# Altium footprint library PcbLib1.PcbLib: 13 footprints
Each footprint in its own frame and in the unit in brackets; x right, y up, seen from the top. Pads: shape width x height; smd on the part's side, far side on the other; paste and mask are expansions set on the pad; w line width, h text height; cw(c..) or ccw(c..) is an arc to the next point about the centre after c.
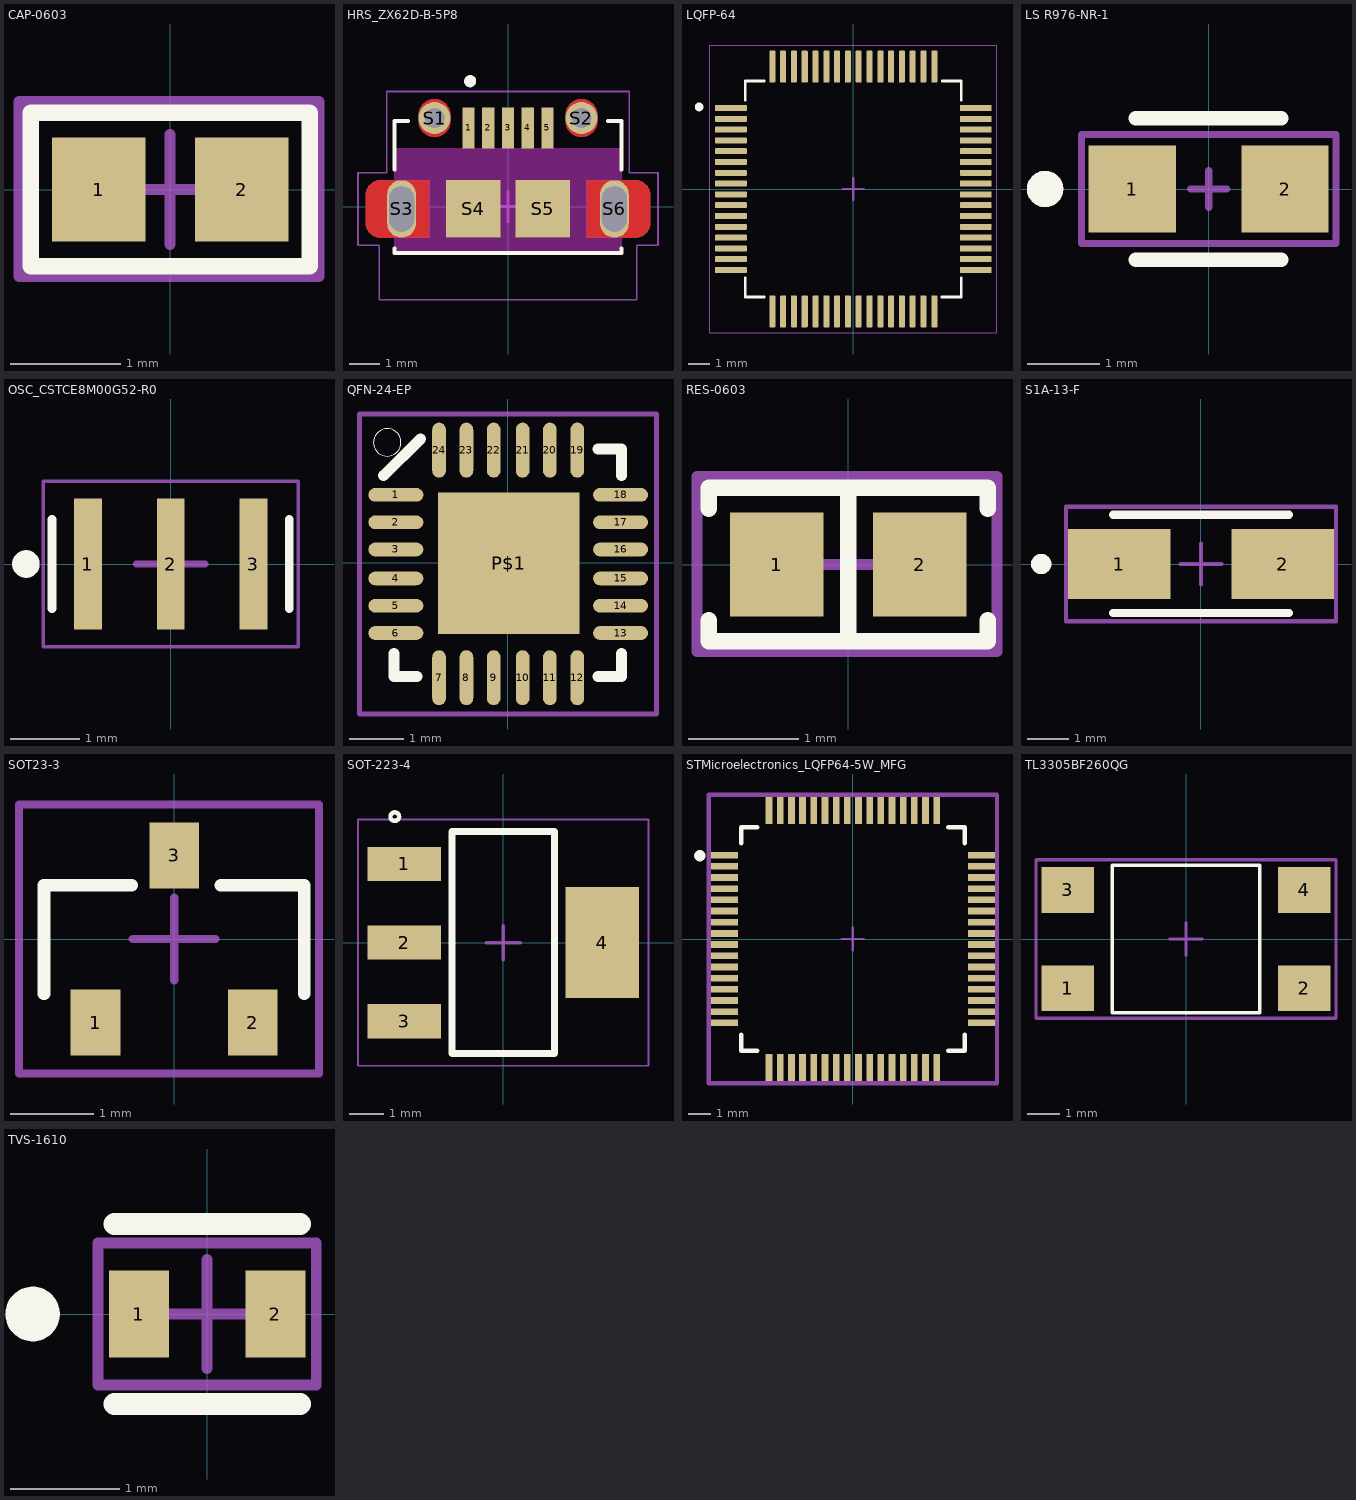
[diagram p0: the footprints below, top view; thin cyan lines are the x and y axes]

## CAP-0603 [mm]
pads (2):
  rect 0.85x0.95 smd: 1(-0.65,0) 2(0.65,0)
Top Overlay:
  lines w0.15: -1.27,-0.7 -1.27,-0.508 -1.27,0.7 1.27,0.7 1.27,-0.508 1.27,-0.7 -1.27,-0.7
Top Component Center:
  lines w0.1: -0.5,0 0.5,0 ; 0,-0.5 0,0.5 ; -1.375,-0.789 1.354,-0.789 1.354,0.799 -1.375,0.799 -1.375,0.233 -1.375,-0.15 -1.375,-0.709 -1.375,-0.789
Top Designator:
  lines w0.1: -1.375,-0.789 1.354,-0.789 1.354,0.799 -1.375,0.799 -1.375,0.233 -1.375,-0.15 -1.375,-0.709 -1.375,-0.789
  text ".Designator" at -0.5,-0.179 h1
3D body "CAP 0603.STEP": height 0.82, standoff 0, extent -0.775,-0.387 0.825,0.437

## HRS_ZX62D-B-5P8 [mm]
pads (11):
  rect 0.4x1.35 smd: 1(-1.3,2.6) 2(-0.65,2.6) 3(0,2.6) 4(0.65,2.6) 5(1.3,2.6)
  round 1.05 hole 0.65: S1(-2.425,2.925) S2(2.425,2.925)
  oval 0.95x1.9 hole 0.825 slot 1.5 at 90 deg: S3(-3.512,-0.075) S6(3.512,-0.075)
  rect 1.8x1.9 smd: S4(-1.15,-0.075) S5(1.15,-0.075)
Top Layer:
  region: 4.226,0.874 4.252,0.872 4.278,0.869 4.304,0.864 4.329,0.858 4.355,0.851 4.379,0.842 4.403,0.832 4.427,0.821 4.45,0.808 4.472,0.794 4.494,0.78 4.515,0.764 4.535,0.747 4.554,0.729 4.572,0.71 4.589,0.69 4.605,0.669 4.619,0.647 4.633,0.625 4.646,0.602 4.657,0.578 4.667,0.554 4.676,0.53 4.683,0.504 4.689,0.479 4.694,0.453 4.697,0.427 4.699,0.401 4.7,0.375 4.7,-0.075 3.925,-0.075 3.925,0.4 3.925,0.414 3.923,0.429 3.922,0.443 3.919,0.457 3.916,0.471 3.912,0.485 3.907,0.499 3.901,0.512 3.895,0.525 3.888,0.537 3.881,0.55 3.872,0.562 3.864,0.573 3.854,0.584 3.844,0.594 3.834,0.604 3.823,0.614 3.812,0.622 3.8,0.631 3.788,0.638 3.775,0.645 3.762,0.651 3.749,0.657 3.735,0.662 3.721,0.666 3.707,0.669 3.693,0.672 3.679,0.673 3.664,0.675 3.65,0.675 3.4,0.675 3.384,0.675 3.369,0.673 3.353,0.671 3.338,0.668 3.322,0.665 3.307,0.66 3.292,0.655 3.278,0.649 3.264,0.642 3.25,0.635 3.237,0.627 3.224,0.618 3.211,0.608 3.199,0.598 3.188,0.587 3.177,0.576 3.167,0.564 3.157,0.551 3.148,0.538 3.14,0.525 3.133,0.511 3.126,0.497 3.12,0.483 3.115,0.468 3.11,0.453 3.107,0.437 3.104,0.422 3.102,0.406 3.1,0.391 3.1,0.375 3.1,-0.075 2.6,-0.075 2.6,0.875 4.2,0.875
  region: -2.6,-1.025 -4.2,-1.025 -4.226,-1.024 -4.252,-1.022 -4.278,-1.019 -4.304,-1.014 -4.329,-1.008 -4.355,-1.001 -4.379,-0.992 -4.403,-0.982 -4.427,-0.971 -4.45,-0.958 -4.472,-0.944 -4.494,-0.93 -4.515,-0.914 -4.535,-0.897 -4.554,-0.879 -4.572,-0.86 -4.589,-0.84 -4.605,-0.819 -4.619,-0.797 -4.633,-0.775 -4.646,-0.752 -4.657,-0.728 -4.667,-0.704 -4.676,-0.68 -4.683,-0.654 -4.689,-0.629 -4.694,-0.603 -4.697,-0.577 -4.699,-0.551 -4.7,-0.525 -4.7,-0.075 -3.925,-0.075 -3.925,-0.55 -3.925,-0.564 -3.923,-0.579 -3.922,-0.593 -3.919,-0.607 -3.916,-0.621 -3.912,-0.635 -3.907,-0.649 -3.901,-0.662 -3.895,-0.675 -3.888,-0.687 -3.881,-0.7 -3.872,-0.712 -3.864,-0.723 -3.854,-0.734 -3.844,-0.744 -3.834,-0.754 -3.823,-0.764 -3.812,-0.772 -3.8,-0.781 -3.788,-0.788 -3.775,-0.795 -3.762,-0.801 -3.749,-0.807 -3.735,-0.812 -3.721,-0.816 -3.707,-0.819 -3.693,-0.822 -3.679,-0.823 -3.664,-0.825 -3.65,-0.825 -3.4,-0.825 -3.384,-0.825 -3.369,-0.823 -3.353,-0.821 -3.338,-0.818 -3.322,-0.815 -3.307,-0.81 -3.292,-0.805 -3.278,-0.799 -3.264,-0.792 -3.25,-0.785 -3.237,-0.777 -3.224,-0.768 -3.211,-0.758 -3.199,-0.748 -3.188,-0.737 -3.177,-0.726 -3.167,-0.714 -3.157,-0.701 -3.148,-0.688 -3.14,-0.675 -3.133,-0.661 -3.126,-0.647 -3.12,-0.633 -3.115,-0.618 -3.11,-0.603 -3.107,-0.587 -3.104,-0.572 -3.102,-0.556 -3.1,-0.541 -3.1,-0.525 -3.1,-0.075 -2.6,-0.075
  region: 4.7,-0.525 4.699,-0.551 4.697,-0.577 4.694,-0.603 4.689,-0.629 4.683,-0.654 4.676,-0.68 4.667,-0.704 4.657,-0.728 4.646,-0.752 4.633,-0.775 4.619,-0.797 4.605,-0.819 4.589,-0.84 4.572,-0.86 4.554,-0.879 4.535,-0.897 4.515,-0.914 4.494,-0.93 4.472,-0.944 4.45,-0.958 4.427,-0.971 4.403,-0.982 4.379,-0.992 4.355,-1.001 4.329,-1.008 4.304,-1.014 4.278,-1.019 4.252,-1.022 4.226,-1.024 4.2,-1.025 2.6,-1.025 2.6,-0.075 3.1,-0.075 3.1,-0.525 3.1,-0.541 3.102,-0.556 3.104,-0.572 3.107,-0.587 3.11,-0.603 3.115,-0.618 3.12,-0.633 3.126,-0.647 3.133,-0.661 3.14,-0.675 3.148,-0.688 3.157,-0.701 3.167,-0.714 3.177,-0.726 3.188,-0.737 3.199,-0.748 3.211,-0.758 3.224,-0.768 3.237,-0.777 3.25,-0.785 3.264,-0.792 3.278,-0.799 3.292,-0.805 3.307,-0.81 3.322,-0.815 3.338,-0.818 3.353,-0.821 3.369,-0.823 3.384,-0.825 3.4,-0.825 3.625,-0.825 3.641,-0.825 3.656,-0.823 3.672,-0.821 3.687,-0.818 3.703,-0.815 3.718,-0.81 3.733,-0.805 3.747,-0.799 3.761,-0.792 3.775,-0.785 3.788,-0.777 3.801,-0.768 3.814,-0.758 3.826,-0.748 3.837,-0.737 3.848,-0.726 3.858,-0.714 3.868,-0.701 3.877,-0.688 3.885,-0.675 3.892,-0.661 3.899,-0.647 3.905,-0.633 3.91,-0.618 3.915,-0.603 3.918,-0.587 3.921,-0.572 3.923,-0.556 3.925,-0.541 3.925,-0.525 3.925,-0.075 4.7,-0.075
  region: -2.6,-0.075 -3.1,-0.075 -3.1,0.375 -3.1,0.391 -3.102,0.406 -3.104,0.422 -3.107,0.437 -3.11,0.453 -3.115,0.468 -3.12,0.483 -3.126,0.497 -3.133,0.511 -3.14,0.525 -3.148,0.538 -3.157,0.551 -3.167,0.564 -3.177,0.576 -3.188,0.587 -3.199,0.598 -3.211,0.608 -3.224,0.618 -3.237,0.627 -3.25,0.635 -3.264,0.642 -3.278,0.649 -3.292,0.655 -3.307,0.66 -3.322,0.665 -3.338,0.668 -3.353,0.671 -3.369,0.673 -3.384,0.675 -3.4,0.675 -3.625,0.675 -3.641,0.675 -3.656,0.673 -3.672,0.671 -3.687,0.668 -3.703,0.665 -3.718,0.66 -3.733,0.655 -3.747,0.649 -3.761,0.642 -3.775,0.635 -3.788,0.627 -3.801,0.618 -3.814,0.608 -3.826,0.598 -3.837,0.587 -3.848,0.576 -3.858,0.564 -3.868,0.551 -3.877,0.538 -3.885,0.525 -3.892,0.511 -3.899,0.497 -3.905,0.483 -3.91,0.468 -3.915,0.453 -3.918,0.437 -3.921,0.422 -3.923,0.406 -3.925,0.391 -3.925,0.375 -3.925,-0.075 -4.7,-0.075 -4.7,0.375 -4.699,0.401 -4.697,0.427 -4.694,0.453 -4.689,0.479 -4.683,0.504 -4.676,0.53 -4.667,0.554 -4.657,0.578 -4.646,0.602 -4.633,0.625 -4.619,0.647 -4.605,0.669 -4.589,0.69 -4.572,0.71 -4.554,0.729 -4.535,0.747 -4.515,0.764 -4.494,0.78 -4.472,0.794 -4.45,0.808 -4.427,0.821 -4.403,0.832 -4.379,0.842 -4.355,0.851 -4.329,0.858 -4.304,0.864 -4.278,0.869 -4.252,0.872 -4.226,0.874 -4.2,0.875 -2.6,0.875
  region: 2.425,3.35 2.408,3.35 2.391,3.348 2.374,3.346 2.357,3.343 2.341,3.339 2.325,3.334 2.309,3.328 2.293,3.322 2.277,3.315 2.262,3.306 2.248,3.298 2.234,3.288 2.22,3.278 2.208,3.267 2.195,3.255 2.183,3.242 2.172,3.23 2.162,3.216 2.152,3.202 2.144,3.187 2.135,3.173 2.128,3.157 2.122,3.141 2.116,3.125 2.111,3.109 2.107,3.093 2.104,3.076 2.102,3.059 2.1,3.042 2.1,3.025 2.1,2.825 2.1,2.808 2.102,2.791 2.104,2.774 2.107,2.757 2.111,2.741 2.116,2.725 2.122,2.709 2.128,2.693 2.135,2.677 2.144,2.662 2.152,2.648 2.162,2.634 2.172,2.62 2.183,2.608 2.195,2.595 2.208,2.583 2.22,2.572 2.234,2.562 2.248,2.552 2.262,2.544 2.277,2.535 2.293,2.528 2.309,2.522 2.325,2.516 2.341,2.511 2.357,2.507 2.374,2.504 2.391,2.502 2.408,2.5 2.425,2.5 2.425,2.3 2.398,2.301 2.37,2.303 2.343,2.306 2.316,2.311 2.289,2.318 2.263,2.326 2.237,2.335 2.211,2.345 2.187,2.357 2.163,2.37 2.139,2.385 2.116,2.4 2.095,2.417 2.074,2.435 2.054,2.454 2.035,2.474 2.017,2.495 2,2.516 1.985,2.539 1.97,2.562 1.957,2.587 1.945,2.611 1.935,2.637 1.926,2.663 1.918,2.689 1.911,2.716 1.906,2.743 1.903,2.77 1.901,2.798 1.9,2.825 1.9,3.025 1.901,3.052 1.903,3.08 1.906,3.107 1.911,3.134 1.918,3.161 1.926,3.187 1.935,3.213 1.945,3.239 1.957,3.263 1.97,3.287 1.985,3.311 2,3.334 2.017,3.355 2.035,3.376 2.054,3.396 2.074,3.415 2.095,3.433 2.116,3.45 2.139,3.465 2.163,3.48 2.187,3.493 2.211,3.505 2.237,3.515 2.263,3.524 2.289,3.532 2.316,3.539 2.343,3.544 2.37,3.547 2.398,3.549 2.425,3.55
  region: 2.452,3.549 2.48,3.547 2.507,3.544 2.534,3.539 2.561,3.532 2.587,3.524 2.613,3.515 2.639,3.505 2.663,3.493 2.688,3.48 2.711,3.465 2.734,3.45 2.755,3.433 2.776,3.415 2.796,3.396 2.815,3.376 2.833,3.355 2.85,3.334 2.865,3.311 2.88,3.287 2.893,3.263 2.905,3.239 2.915,3.213 2.924,3.187 2.932,3.161 2.939,3.134 2.944,3.107 2.947,3.08 2.949,3.052 2.95,3.025 2.95,2.825 2.949,2.798 2.947,2.77 2.944,2.743 2.939,2.716 2.932,2.689 2.924,2.663 2.915,2.637 2.905,2.611 2.893,2.587 2.88,2.562 2.865,2.539 2.85,2.516 2.833,2.495 2.815,2.474 2.796,2.454 2.776,2.435 2.755,2.417 2.734,2.4 2.711,2.385 2.688,2.37 2.663,2.357 2.639,2.345 2.613,2.335 2.587,2.326 2.561,2.318 2.534,2.311 2.507,2.306 2.48,2.303 2.452,2.301 2.425,2.3 2.425,2.5 2.442,2.5 2.459,2.502 2.476,2.504 2.493,2.507 2.509,2.511 2.525,2.516 2.541,2.522 2.557,2.528 2.573,2.535 2.588,2.544 2.602,2.552 2.616,2.562 2.63,2.572 2.642,2.583 2.655,2.595 2.667,2.608 2.678,2.62 2.688,2.634 2.698,2.648 2.706,2.662 2.715,2.677 2.722,2.693 2.728,2.709 2.734,2.725 2.739,2.741 2.743,2.757 2.746,2.774 2.748,2.791 2.75,2.808 2.75,2.825 2.75,3.025 2.75,3.042 2.748,3.059 2.746,3.076 2.743,3.093 2.739,3.109 2.734,3.125 2.728,3.141 2.722,3.157 2.715,3.173 2.706,3.187 2.698,3.202 2.688,3.216 2.678,3.23 2.667,3.242 2.655,3.255 2.642,3.267 2.63,3.278 2.616,3.288 2.602,3.298 2.588,3.306 2.573,3.315 2.557,3.322 2.541,3.328 2.525,3.334 2.509,3.339 2.493,3.343 2.476,3.346 2.459,3.348 2.442,3.35 2.425,3.35 2.425,3.55
  region: -2.425,3.35 -2.442,3.35 -2.459,3.348 -2.476,3.346 -2.493,3.343 -2.509,3.339 -2.525,3.334 -2.541,3.328 -2.557,3.322 -2.573,3.315 -2.588,3.306 -2.602,3.298 -2.616,3.288 -2.63,3.278 -2.642,3.267 -2.655,3.255 -2.667,3.242 -2.678,3.23 -2.688,3.216 -2.698,3.202 -2.706,3.187 -2.715,3.173 -2.722,3.157 -2.728,3.141 -2.734,3.125 -2.739,3.109 -2.743,3.093 -2.746,3.076 -2.748,3.059 -2.75,3.042 -2.75,3.025 -2.75,2.825 -2.75,2.808 -2.748,2.791 -2.746,2.774 -2.743,2.757 -2.739,2.741 -2.734,2.725 -2.728,2.709 -2.722,2.693 -2.715,2.677 -2.706,2.662 -2.698,2.648 -2.688,2.634 -2.678,2.62 -2.667,2.608 -2.655,2.595 -2.642,2.583 -2.63,2.572 -2.616,2.562 -2.602,2.552 -2.588,2.544 -2.573,2.535 -2.557,2.528 -2.541,2.522 -2.525,2.516 -2.509,2.511 -2.493,2.507 -2.476,2.504 -2.459,2.502 -2.442,2.5 -2.425,2.5 -2.425,2.3 -2.452,2.301 -2.48,2.303 -2.507,2.306 -2.534,2.311 -2.561,2.318 -2.587,2.326 -2.613,2.335 -2.639,2.345 -2.663,2.357 -2.688,2.37 -2.711,2.385 -2.734,2.4 -2.755,2.417 -2.776,2.435 -2.796,2.454 -2.815,2.474 -2.833,2.495 -2.85,2.516 -2.865,2.539 -2.88,2.562 -2.893,2.587 -2.905,2.611 -2.915,2.637 -2.924,2.663 -2.932,2.689 -2.939,2.716 -2.944,2.743 -2.947,2.77 -2.949,2.798 -2.95,2.825 -2.95,3.025 -2.949,3.052 -2.947,3.08 -2.944,3.107 -2.939,3.134 -2.932,3.161 -2.924,3.187 -2.915,3.213 -2.905,3.239 -2.893,3.263 -2.88,3.287 -2.865,3.311 -2.85,3.334 -2.833,3.355 -2.815,3.376 -2.796,3.396 -2.776,3.415 -2.755,3.433 -2.734,3.45 -2.711,3.465 -2.688,3.48 -2.663,3.493 -2.639,3.505 -2.613,3.515 -2.587,3.524 -2.561,3.532 -2.534,3.539 -2.507,3.544 -2.48,3.547 -2.452,3.549 -2.425,3.55
  region: -2.398,3.549 -2.37,3.547 -2.343,3.544 -2.316,3.539 -2.289,3.532 -2.263,3.524 -2.237,3.515 -2.211,3.505 -2.187,3.493 -2.163,3.48 -2.139,3.465 -2.116,3.45 -2.095,3.433 -2.074,3.415 -2.054,3.396 -2.035,3.376 -2.017,3.355 -2,3.334 -1.985,3.311 -1.97,3.287 -1.957,3.263 -1.945,3.239 -1.935,3.213 -1.926,3.187 -1.918,3.161 -1.911,3.134 -1.906,3.107 -1.903,3.08 -1.901,3.052 -1.9,3.025 -1.9,2.825 -1.901,2.798 -1.903,2.77 -1.906,2.743 -1.911,2.716 -1.918,2.689 -1.926,2.663 -1.935,2.637 -1.945,2.611 -1.957,2.587 -1.97,2.562 -1.985,2.539 -2,2.516 -2.017,2.495 -2.035,2.474 -2.054,2.454 -2.074,2.435 -2.095,2.417 -2.116,2.4 -2.139,2.385 -2.163,2.37 -2.187,2.357 -2.211,2.345 -2.237,2.335 -2.263,2.326 -2.289,2.318 -2.316,2.311 -2.343,2.306 -2.37,2.303 -2.398,2.301 -2.425,2.3 -2.425,2.5 -2.408,2.5 -2.391,2.502 -2.374,2.504 -2.357,2.507 -2.341,2.511 -2.325,2.516 -2.309,2.522 -2.293,2.528 -2.277,2.535 -2.262,2.544 -2.248,2.552 -2.234,2.562 -2.22,2.572 -2.208,2.583 -2.195,2.595 -2.183,2.608 -2.172,2.62 -2.162,2.634 -2.152,2.648 -2.144,2.662 -2.135,2.677 -2.128,2.693 -2.122,2.709 -2.116,2.725 -2.111,2.741 -2.107,2.757 -2.104,2.774 -2.102,2.791 -2.1,2.808 -2.1,2.825 -2.1,3.025 -2.1,3.042 -2.102,3.059 -2.104,3.076 -2.107,3.093 -2.111,3.109 -2.116,3.125 -2.122,3.141 -2.128,3.157 -2.135,3.173 -2.144,3.187 -2.152,3.202 -2.162,3.216 -2.172,3.23 -2.183,3.242 -2.195,3.255 -2.208,3.267 -2.22,3.278 -2.234,3.288 -2.248,3.298 -2.262,3.306 -2.277,3.315 -2.293,3.322 -2.309,3.328 -2.325,3.334 -2.341,3.339 -2.357,3.343 -2.374,3.346 -2.391,3.348 -2.408,3.35 -2.425,3.35 -2.425,3.55
Bottom Layer:
  region: 4.226,0.874 4.252,0.872 4.278,0.869 4.304,0.864 4.329,0.858 4.355,0.851 4.379,0.842 4.403,0.832 4.427,0.821 4.45,0.808 4.472,0.794 4.494,0.78 4.515,0.764 4.535,0.747 4.554,0.729 4.572,0.71 4.589,0.69 4.605,0.669 4.619,0.647 4.633,0.625 4.646,0.602 4.657,0.578 4.667,0.554 4.676,0.53 4.683,0.504 4.689,0.479 4.694,0.453 4.697,0.427 4.699,0.401 4.7,0.375 4.7,-0.075 3.925,-0.075 3.925,0.4 3.925,0.414 3.923,0.429 3.922,0.443 3.919,0.457 3.916,0.471 3.912,0.485 3.907,0.499 3.901,0.512 3.895,0.525 3.888,0.537 3.881,0.55 3.872,0.562 3.864,0.573 3.854,0.584 3.844,0.594 3.834,0.604 3.823,0.614 3.812,0.622 3.8,0.631 3.788,0.638 3.775,0.645 3.762,0.651 3.749,0.657 3.735,0.662 3.721,0.666 3.707,0.669 3.693,0.672 3.679,0.673 3.664,0.675 3.65,0.675 3.4,0.675 3.384,0.675 3.369,0.673 3.353,0.671 3.338,0.668 3.322,0.665 3.307,0.66 3.292,0.655 3.278,0.649 3.264,0.642 3.25,0.635 3.237,0.627 3.224,0.618 3.211,0.608 3.199,0.598 3.188,0.587 3.177,0.576 3.167,0.564 3.157,0.551 3.148,0.538 3.14,0.525 3.133,0.511 3.126,0.497 3.12,0.483 3.115,0.468 3.11,0.453 3.107,0.437 3.104,0.422 3.102,0.406 3.1,0.391 3.1,0.375 3.1,-0.075 2.6,-0.075 2.6,0.875 4.2,0.875
  region: -2.6,-1.025 -4.2,-1.025 -4.226,-1.024 -4.252,-1.022 -4.278,-1.019 -4.304,-1.014 -4.329,-1.008 -4.355,-1.001 -4.379,-0.992 -4.403,-0.982 -4.427,-0.971 -4.45,-0.958 -4.472,-0.944 -4.494,-0.93 -4.515,-0.914 -4.535,-0.897 -4.554,-0.879 -4.572,-0.86 -4.589,-0.84 -4.605,-0.819 -4.619,-0.797 -4.633,-0.775 -4.646,-0.752 -4.657,-0.728 -4.667,-0.704 -4.676,-0.68 -4.683,-0.654 -4.689,-0.629 -4.694,-0.603 -4.697,-0.577 -4.699,-0.551 -4.7,-0.525 -4.7,-0.075 -3.925,-0.075 -3.925,-0.55 -3.925,-0.564 -3.923,-0.579 -3.922,-0.593 -3.919,-0.607 -3.916,-0.621 -3.912,-0.635 -3.907,-0.649 -3.901,-0.662 -3.895,-0.675 -3.888,-0.687 -3.881,-0.7 -3.872,-0.712 -3.864,-0.723 -3.854,-0.734 -3.844,-0.744 -3.834,-0.754 -3.823,-0.764 -3.812,-0.772 -3.8,-0.781 -3.788,-0.788 -3.775,-0.795 -3.762,-0.801 -3.749,-0.807 -3.735,-0.812 -3.721,-0.816 -3.707,-0.819 -3.693,-0.822 -3.679,-0.823 -3.664,-0.825 -3.65,-0.825 -3.4,-0.825 -3.384,-0.825 -3.369,-0.823 -3.353,-0.821 -3.338,-0.818 -3.322,-0.815 -3.307,-0.81 -3.292,-0.805 -3.278,-0.799 -3.264,-0.792 -3.25,-0.785 -3.237,-0.777 -3.224,-0.768 -3.211,-0.758 -3.199,-0.748 -3.188,-0.737 -3.177,-0.726 -3.167,-0.714 -3.157,-0.701 -3.148,-0.688 -3.14,-0.675 -3.133,-0.661 -3.126,-0.647 -3.12,-0.633 -3.115,-0.618 -3.11,-0.603 -3.107,-0.587 -3.104,-0.572 -3.102,-0.556 -3.1,-0.541 -3.1,-0.525 -3.1,-0.075 -2.6,-0.075
  region: 4.7,-0.525 4.699,-0.551 4.697,-0.577 4.694,-0.603 4.689,-0.629 4.683,-0.654 4.676,-0.68 4.667,-0.704 4.657,-0.728 4.646,-0.752 4.633,-0.775 4.619,-0.797 4.605,-0.819 4.589,-0.84 4.572,-0.86 4.554,-0.879 4.535,-0.897 4.515,-0.914 4.494,-0.93 4.472,-0.944 4.45,-0.958 4.427,-0.971 4.403,-0.982 4.379,-0.992 4.355,-1.001 4.329,-1.008 4.304,-1.014 4.278,-1.019 4.252,-1.022 4.226,-1.024 4.2,-1.025 2.6,-1.025 2.6,-0.075 3.1,-0.075 3.1,-0.525 3.1,-0.541 3.102,-0.556 3.104,-0.572 3.107,-0.587 3.11,-0.603 3.115,-0.618 3.12,-0.633 3.126,-0.647 3.133,-0.661 3.14,-0.675 3.148,-0.688 3.157,-0.701 3.167,-0.714 3.177,-0.726 3.188,-0.737 3.199,-0.748 3.211,-0.758 3.224,-0.768 3.237,-0.777 3.25,-0.785 3.264,-0.792 3.278,-0.799 3.292,-0.805 3.307,-0.81 3.322,-0.815 3.338,-0.818 3.353,-0.821 3.369,-0.823 3.384,-0.825 3.4,-0.825 3.625,-0.825 3.641,-0.825 3.656,-0.823 3.672,-0.821 3.687,-0.818 3.703,-0.815 3.718,-0.81 3.733,-0.805 3.747,-0.799 3.761,-0.792 3.775,-0.785 3.788,-0.777 3.801,-0.768 3.814,-0.758 3.826,-0.748 3.837,-0.737 3.848,-0.726 3.858,-0.714 3.868,-0.701 3.877,-0.688 3.885,-0.675 3.892,-0.661 3.899,-0.647 3.905,-0.633 3.91,-0.618 3.915,-0.603 3.918,-0.587 3.921,-0.572 3.923,-0.556 3.925,-0.541 3.925,-0.525 3.925,-0.075 4.7,-0.075
  region: -2.6,-0.075 -3.1,-0.075 -3.1,0.375 -3.1,0.391 -3.102,0.406 -3.104,0.422 -3.107,0.437 -3.11,0.453 -3.115,0.468 -3.12,0.483 -3.126,0.497 -3.133,0.511 -3.14,0.525 -3.148,0.538 -3.157,0.551 -3.167,0.564 -3.177,0.576 -3.188,0.587 -3.199,0.598 -3.211,0.608 -3.224,0.618 -3.237,0.627 -3.25,0.635 -3.264,0.642 -3.278,0.649 -3.292,0.655 -3.307,0.66 -3.322,0.665 -3.338,0.668 -3.353,0.671 -3.369,0.673 -3.384,0.675 -3.4,0.675 -3.625,0.675 -3.641,0.675 -3.656,0.673 -3.672,0.671 -3.687,0.668 -3.703,0.665 -3.718,0.66 -3.733,0.655 -3.747,0.649 -3.761,0.642 -3.775,0.635 -3.788,0.627 -3.801,0.618 -3.814,0.608 -3.826,0.598 -3.837,0.587 -3.848,0.576 -3.858,0.564 -3.868,0.551 -3.877,0.538 -3.885,0.525 -3.892,0.511 -3.899,0.497 -3.905,0.483 -3.91,0.468 -3.915,0.453 -3.918,0.437 -3.921,0.422 -3.923,0.406 -3.925,0.391 -3.925,0.375 -3.925,-0.075 -4.7,-0.075 -4.7,0.375 -4.699,0.401 -4.697,0.427 -4.694,0.453 -4.689,0.479 -4.683,0.504 -4.676,0.53 -4.667,0.554 -4.657,0.578 -4.646,0.602 -4.633,0.625 -4.619,0.647 -4.605,0.669 -4.589,0.69 -4.572,0.71 -4.554,0.729 -4.535,0.747 -4.515,0.764 -4.494,0.78 -4.472,0.794 -4.45,0.808 -4.427,0.821 -4.403,0.832 -4.379,0.842 -4.355,0.851 -4.329,0.858 -4.304,0.864 -4.278,0.869 -4.252,0.872 -4.226,0.874 -4.2,0.875 -2.6,0.875
  region: 2.425,3.35 2.408,3.35 2.391,3.348 2.374,3.346 2.357,3.343 2.341,3.339 2.325,3.334 2.309,3.328 2.293,3.322 2.277,3.315 2.262,3.306 2.248,3.298 2.234,3.288 2.22,3.278 2.208,3.267 2.195,3.255 2.183,3.242 2.172,3.23 2.162,3.216 2.152,3.202 2.144,3.187 2.135,3.173 2.128,3.157 2.122,3.141 2.116,3.125 2.111,3.109 2.107,3.093 2.104,3.076 2.102,3.059 2.1,3.042 2.1,3.025 2.1,2.825 2.1,2.808 2.102,2.791 2.104,2.774 2.107,2.757 2.111,2.741 2.116,2.725 2.122,2.709 2.128,2.693 2.135,2.677 2.144,2.662 2.152,2.648 2.162,2.634 2.172,2.62 2.183,2.608 2.195,2.595 2.208,2.583 2.22,2.572 2.234,2.562 2.248,2.552 2.262,2.544 2.277,2.535 2.293,2.528 2.309,2.522 2.325,2.516 2.341,2.511 2.357,2.507 2.374,2.504 2.391,2.502 2.408,2.5 2.425,2.5 2.425,2.3 2.398,2.301 2.37,2.303 2.343,2.306 2.316,2.311 2.289,2.318 2.263,2.326 2.237,2.335 2.211,2.345 2.187,2.357 2.163,2.37 2.139,2.385 2.116,2.4 2.095,2.417 2.074,2.435 2.054,2.454 2.035,2.474 2.017,2.495 2,2.516 1.985,2.539 1.97,2.562 1.957,2.587 1.945,2.611 1.935,2.637 1.926,2.663 1.918,2.689 1.911,2.716 1.906,2.743 1.903,2.77 1.901,2.798 1.9,2.825 1.9,3.025 1.901,3.052 1.903,3.08 1.906,3.107 1.911,3.134 1.918,3.161 1.926,3.187 1.935,3.213 1.945,3.239 1.957,3.263 1.97,3.287 1.985,3.311 2,3.334 2.017,3.355 2.035,3.376 2.054,3.396 2.074,3.415 2.095,3.433 2.116,3.45 2.139,3.465 2.163,3.48 2.187,3.493 2.211,3.505 2.237,3.515 2.263,3.524 2.289,3.532 2.316,3.539 2.343,3.544 2.37,3.547 2.398,3.549 2.425,3.55
  region: 2.452,3.549 2.48,3.547 2.507,3.544 2.534,3.539 2.561,3.532 2.587,3.524 2.613,3.515 2.639,3.505 2.663,3.493 2.688,3.48 2.711,3.465 2.734,3.45 2.755,3.433 2.776,3.415 2.796,3.396 2.815,3.376 2.833,3.355 2.85,3.334 2.865,3.311 2.88,3.287 2.893,3.263 2.905,3.239 2.915,3.213 2.924,3.187 2.932,3.161 2.939,3.134 2.944,3.107 2.947,3.08 2.949,3.052 2.95,3.025 2.95,2.825 2.949,2.798 2.947,2.77 2.944,2.743 2.939,2.716 2.932,2.689 2.924,2.663 2.915,2.637 2.905,2.611 2.893,2.587 2.88,2.562 2.865,2.539 2.85,2.516 2.833,2.495 2.815,2.474 2.796,2.454 2.776,2.435 2.755,2.417 2.734,2.4 2.711,2.385 2.688,2.37 2.663,2.357 2.639,2.345 2.613,2.335 2.587,2.326 2.561,2.318 2.534,2.311 2.507,2.306 2.48,2.303 2.452,2.301 2.425,2.3 2.425,2.5 2.442,2.5 2.459,2.502 2.476,2.504 2.493,2.507 2.509,2.511 2.525,2.516 2.541,2.522 2.557,2.528 2.573,2.535 2.588,2.544 2.602,2.552 2.616,2.562 2.63,2.572 2.642,2.583 2.655,2.595 2.667,2.608 2.678,2.62 2.688,2.634 2.698,2.648 2.706,2.662 2.715,2.677 2.722,2.693 2.728,2.709 2.734,2.725 2.739,2.741 2.743,2.757 2.746,2.774 2.748,2.791 2.75,2.808 2.75,2.825 2.75,3.025 2.75,3.042 2.748,3.059 2.746,3.076 2.743,3.093 2.739,3.109 2.734,3.125 2.728,3.141 2.722,3.157 2.715,3.173 2.706,3.187 2.698,3.202 2.688,3.216 2.678,3.23 2.667,3.242 2.655,3.255 2.642,3.267 2.63,3.278 2.616,3.288 2.602,3.298 2.588,3.306 2.573,3.315 2.557,3.322 2.541,3.328 2.525,3.334 2.509,3.339 2.493,3.343 2.476,3.346 2.459,3.348 2.442,3.35 2.425,3.35 2.425,3.55
  region: -2.425,3.35 -2.442,3.35 -2.459,3.348 -2.476,3.346 -2.493,3.343 -2.509,3.339 -2.525,3.334 -2.541,3.328 -2.557,3.322 -2.573,3.315 -2.588,3.306 -2.602,3.298 -2.616,3.288 -2.63,3.278 -2.642,3.267 -2.655,3.255 -2.667,3.242 -2.678,3.23 -2.688,3.216 -2.698,3.202 -2.706,3.187 -2.715,3.173 -2.722,3.157 -2.728,3.141 -2.734,3.125 -2.739,3.109 -2.743,3.093 -2.746,3.076 -2.748,3.059 -2.75,3.042 -2.75,3.025 -2.75,2.825 -2.75,2.808 -2.748,2.791 -2.746,2.774 -2.743,2.757 -2.739,2.741 -2.734,2.725 -2.728,2.709 -2.722,2.693 -2.715,2.677 -2.706,2.662 -2.698,2.648 -2.688,2.634 -2.678,2.62 -2.667,2.608 -2.655,2.595 -2.642,2.583 -2.63,2.572 -2.616,2.562 -2.602,2.552 -2.588,2.544 -2.573,2.535 -2.557,2.528 -2.541,2.522 -2.525,2.516 -2.509,2.511 -2.493,2.507 -2.476,2.504 -2.459,2.502 -2.442,2.5 -2.425,2.5 -2.425,2.3 -2.452,2.301 -2.48,2.303 -2.507,2.306 -2.534,2.311 -2.561,2.318 -2.587,2.326 -2.613,2.335 -2.639,2.345 -2.663,2.357 -2.688,2.37 -2.711,2.385 -2.734,2.4 -2.755,2.417 -2.776,2.435 -2.796,2.454 -2.815,2.474 -2.833,2.495 -2.85,2.516 -2.865,2.539 -2.88,2.562 -2.893,2.587 -2.905,2.611 -2.915,2.637 -2.924,2.663 -2.932,2.689 -2.939,2.716 -2.944,2.743 -2.947,2.77 -2.949,2.798 -2.95,2.825 -2.95,3.025 -2.949,3.052 -2.947,3.08 -2.944,3.107 -2.939,3.134 -2.932,3.161 -2.924,3.187 -2.915,3.213 -2.905,3.239 -2.893,3.263 -2.88,3.287 -2.865,3.311 -2.85,3.334 -2.833,3.355 -2.815,3.376 -2.796,3.396 -2.776,3.415 -2.755,3.433 -2.734,3.45 -2.711,3.465 -2.688,3.48 -2.663,3.493 -2.639,3.505 -2.613,3.515 -2.587,3.524 -2.561,3.532 -2.534,3.539 -2.507,3.544 -2.48,3.547 -2.452,3.549 -2.425,3.55
  region: -2.398,3.549 -2.37,3.547 -2.343,3.544 -2.316,3.539 -2.289,3.532 -2.263,3.524 -2.237,3.515 -2.211,3.505 -2.187,3.493 -2.163,3.48 -2.139,3.465 -2.116,3.45 -2.095,3.433 -2.074,3.415 -2.054,3.396 -2.035,3.376 -2.017,3.355 -2,3.334 -1.985,3.311 -1.97,3.287 -1.957,3.263 -1.945,3.239 -1.935,3.213 -1.926,3.187 -1.918,3.161 -1.911,3.134 -1.906,3.107 -1.903,3.08 -1.901,3.052 -1.9,3.025 -1.9,2.825 -1.901,2.798 -1.903,2.77 -1.906,2.743 -1.911,2.716 -1.918,2.689 -1.926,2.663 -1.935,2.637 -1.945,2.611 -1.957,2.587 -1.97,2.562 -1.985,2.539 -2,2.516 -2.017,2.495 -2.035,2.474 -2.054,2.454 -2.074,2.435 -2.095,2.417 -2.116,2.4 -2.139,2.385 -2.163,2.37 -2.187,2.357 -2.211,2.345 -2.237,2.335 -2.263,2.326 -2.289,2.318 -2.316,2.311 -2.343,2.306 -2.37,2.303 -2.398,2.301 -2.425,2.3 -2.425,2.5 -2.408,2.5 -2.391,2.502 -2.374,2.504 -2.357,2.507 -2.341,2.511 -2.325,2.516 -2.309,2.522 -2.293,2.528 -2.277,2.535 -2.262,2.544 -2.248,2.552 -2.234,2.562 -2.22,2.572 -2.208,2.583 -2.195,2.595 -2.183,2.608 -2.172,2.62 -2.162,2.634 -2.152,2.648 -2.144,2.662 -2.135,2.677 -2.128,2.693 -2.122,2.709 -2.116,2.725 -2.111,2.741 -2.107,2.757 -2.104,2.774 -2.102,2.791 -2.1,2.808 -2.1,2.825 -2.1,3.025 -2.1,3.042 -2.102,3.059 -2.104,3.076 -2.107,3.093 -2.111,3.109 -2.116,3.125 -2.122,3.141 -2.128,3.157 -2.135,3.173 -2.144,3.187 -2.152,3.202 -2.162,3.216 -2.172,3.23 -2.183,3.242 -2.195,3.255 -2.208,3.267 -2.22,3.278 -2.234,3.288 -2.248,3.298 -2.262,3.306 -2.277,3.315 -2.293,3.322 -2.309,3.328 -2.325,3.334 -2.341,3.339 -2.357,3.343 -2.374,3.346 -2.391,3.348 -2.408,3.35 -2.425,3.35 -2.425,3.55
Top Overlay:
  circle w0.2: c-1.25,4.14 r0.1
  lines w0.127: -3.75,-1.375 -3.75,-1.525 3.75,-1.525 3.75,-1.375 ; -3.75,1.225 -3.75,2.825 -3.3,2.825 ; 3.3,2.825 3.75,2.825 3.75,1.225
Top Paste:
  drawing of 8 lines, arcs and shapes, not listed
Bottom Paste:
  drawing of 8 lines, arcs and shapes, not listed
Top Solder:
  region: 4.8,-1.128 2.502,-1.128 2.502,0.975 4.8,0.975
  region: -2.5,-1.126 -4.801,-1.126 -4.801,0.975 -2.5,0.975
  region: 3.05,2.2 1.802,2.2 1.802,3.65 3.05,3.65
  region: -1.8,2.2 -3.051,2.2 -3.051,3.65 -1.8,3.65
Bottom Solder:
  region: 4.8,-1.128 3.75,-1.128 3.75,-1.025 2.6,-1.025 2.6,0.875 3.75,0.875 3.75,0.975 4.8,0.975
  region: -3.75,0.875 -2.6,0.875 -2.6,-1.025 -3.75,-1.025 -3.75,-1.126 -4.801,-1.126 -4.801,0.975 -3.75,0.975
  region: 3.05,2.2 1.802,2.2 1.802,3.65 3.05,3.65
  region: -1.8,2.2 -3.051,2.2 -3.051,3.65 -1.8,3.65
Keep-Out Layer:
  region: 2.6,-1.025 2.05,-1.025 2.05,0.875 2.6,0.875
  region: 0.25,-1.025 -0.25,-1.025 -0.25,0.875 0.25,0.875
  region: -2.05,-1.025 -2.6,-1.025 -2.6,0.875 -2.05,0.875
  region: 3.75,-1.525 -3.75,-1.525 -3.75,-1.025 3.75,-1.025
  region: 3.75,0.875 -3.75,0.875 -3.75,1.925 3.75,1.925
  region: 2.6,-1.025 2.05,-1.025 2.05,0.875 2.6,0.875
  region: 0.25,-1.025 -0.25,-1.025 -0.25,0.875 0.25,0.875
  region: -2.05,-1.025 -2.6,-1.025 -2.6,0.875 -2.05,0.875
  region: 3.75,-1.525 -3.75,-1.525 -3.75,-1.025 3.75,-1.025
  region: 3.75,0.875 -3.75,0.875 -3.75,1.925 3.75,1.925
Top Component Center:
  lines w0.05: -4.95,-1.275 -4.95,1.125 -4,1.125 -4,3.8 4,3.8 4,1.125 4.95,1.125 4.95,-1.275 4.25,-1.275 4.25,-3.075 -4.25,-3.075 -4.25,-1.275 -4.95,-1.275
  lines w0.1: -0.5,0 0.5,0 ; 0,-0.5 0,0.5
Top Designator:
  lines w0.05: -4.95,-1.275 -4.95,1.125 -4,1.125 -4,3.8 4,3.8 4,1.125 4.95,1.125 4.95,-1.275 4.25,-1.275 4.25,-3.075 -4.25,-3.075 -4.25,-1.275 -4.95,-1.275
  text ".Designator" at -0.5,-0.207 h2
3D body "ZX62D-B-5P8--3DModel-STEP-56544.STEP": height 2.71, standoff -0.79, extent -4.029,-2.625 4.064,3.175

## LQFP-64 [mm]
pads (64):
  rrect25% 1.47x0.28 smd: 1(-5.67,3.75) 2(-5.67,3.25) 3(-5.67,2.75) 4(-5.67,2.25) 5(-5.67,1.75) 6(-5.67,1.25) 7(-5.67,0.75) 8(-5.67,0.25) 9(-5.67,-0.25) 10(-5.67,-0.75) 11(-5.67,-1.25) 12(-5.67,-1.75) 13(-5.67,-2.25) 14(-5.67,-2.75) 15(-5.67,-3.25) 16(-5.67,-3.75) 33(5.67,-3.75) 34(5.67,-3.25) 35(5.67,-2.75) 36(5.67,-2.25) 37(5.67,-1.75) 38(5.67,-1.25) 39(5.67,-0.75) 40(5.67,-0.25) 41(5.67,0.25) 42(5.67,0.75) 43(5.67,1.25) 44(5.67,1.75) 45(5.67,2.25) 46(5.67,2.75) 47(5.67,3.25) 48(5.67,3.75)
  rrect25% 0.28x1.47 smd: 17(-3.75,-5.67) 18(-3.25,-5.67) 19(-2.75,-5.67) 20(-2.25,-5.67) 21(-1.75,-5.67) 22(-1.25,-5.67) 23(-0.75,-5.67) 24(-0.25,-5.67) 25(0.25,-5.67) 26(0.75,-5.67) 27(1.25,-5.67) 28(1.75,-5.67) 29(2.25,-5.67) 30(2.75,-5.67) 31(3.25,-5.67) 32(3.75,-5.67) 49(3.75,5.67) 50(3.25,5.67) 51(2.75,5.67) 52(2.25,5.67) 53(1.75,5.67) 54(1.25,5.67) 55(0.75,5.67) 56(0.25,5.67) 57(-0.25,5.67) 58(-0.75,5.67) 59(-1.25,5.67) 60(-1.75,5.67) 61(-2.25,5.67) 62(-2.75,5.67) 63(-3.25,5.67) 64(-3.75,5.67)
Top Overlay:
  circle w0.2: c-7.14,3.8 r0.1
  lines w0.127: -5,-4.125 -5,-5 -4.125,-5 ; -5,4.125 -5,5 -4.125,5 ; 4.092,-5 5,-5 5,-4.125 ; 4.125,5 5,5 5,4.125
Top Component Center:
  lines w0.05: -6.655,-6.655 6.655,-6.655 6.655,6.655 -6.655,6.655 -6.655,-6.655
  lines w0.1: -0.5,0 0.5,0 ; 0,-0.5 0,0.5
Top Designator:
  lines w0.05: -6.655,-6.655 -6.655,6.655 6.655,6.655 6.655,-6.655 -6.655,-6.655
  text ".Designator" at -1.5,-0.207 h2
3D body "STM32F405RGT6.STEP": height 1.46, standoff -0.14, extent -6,-6 6,6

## LS R976-NR-1 [mm]
pads (2):
  rect 1.2x1.2 smd paste+0 mask+0: 1(-1.05,0) 2(1.05,0)
Top Overlay:
  circle w0.25: c-2.25,0 r0.125
  lines w0.2: -1,-0.975 1,-0.975 ; -1,0.975 1,0.975
Top Component Center:
  lines w0.1: -0.25,0 0.25,0 ; 0,-0.25 0,0.25 ; -1.75,-0.75 1.75,-0.75 1.75,0.75 -1,0.75 -1.75,0.75 -1.75,-0.75
Top Designator:
  lines w0.1: -1.75,-0.75 1.75,-0.75 1.75,0.75 -1,0.75 -1.75,0.75 -1.75,-0.75
  text ".Designator" at -0.5,-0.104 h1
3D body "Diode_OSRAM_LS_R976-NR-1_eec.STEP": height 0.9, standoff 0, extent -1,-0.675 0.9,0.675

## OSC_CSTCE8M00G52-R0 [mm]
pads (3):
  rect 0.4x1.9 smd: 1(-1.2,0) 2(0,0) 3(1.2,0)
Top Overlay:
  circle w0.2: c-2.1,0 r0.1
  circle w0.2: c-2.1,0 r0.1
  lines w0.127: -1.72,-0.65 -1.72,0.65 ; 1.72,-0.65 1.72,0.65
Top Component Center:
  lines w0.05: -1.85,-1.2 1.85,-1.2 1.85,1.2 -1.85,1.2 -1.85,-1.2
  lines w0.1: -0.5,0 0.5,0 ; 0,-0.5 0,0.5
Top Designator:
  lines w0.05: -1.85,-1.2 1.85,-1.2 1.85,1.2 -1.85,1.2 -1.85,-1.2
  text ".Designator" at -0.725,-0.204 h1
3D body "step_temp.STEP": height 0.8, standoff 0, extent -1.6,-0.65 1.6,0.65

## QFN-24-EP [mil]
pads (25):
  oval 40x10 smd: 1(-81.35,49.48) 2(-81.35,29.51) 3(-81.35,9.74) 4(-81.35,-11.32) 5(-81.35,-31.18) 6(-81.35,-51.05) 13(82.13,-51.05) 14(82.13,-31.18) 15(82.13,-11.32) 16(82.13,9.74) 17(82.13,29.51) 18(82.13,49.48)
  oval 10x40 smd: 7(-49.87,-83.53) 8(-30,-83.53) 9(-10.14,-83.53) 10(10.93,-83.53) 11(30.69,-83.53) 12(50.66,-83.53) 19(50.66,81.95) 20(30.69,81.95) 21(10.93,81.95) 22(-10.14,81.95) 23(-30,81.95) 24(-49.87,81.95)
  rect 103x103 smd paste-78.74: P$1(0.79,-0.39)
Top Overlay:
  lines w0: -77.58,87.58 cw(c-87.58,87.58) -77.58,87.75
  lines w8: -90.18,63.37 -63.37,90.18 ; -82.68,-65.87 -82.68,-82.68 -65.87,-82.68 ; 65.87,-82.68 82.68,-82.68 82.68,-65.87 ; 65.87,82.68 82.68,82.68 82.68,63.37
Top Paste:
  region: 34.5,-34.5 15.5,-34.5 15.5,-15.5 34.5,-15.5
  region: -13.5,-34.5 -32.5,-34.5 -32.5,-15.5 -13.5,-15.5
  region: 36,13 17,13 17,32 36,32
  region: -14,13 -33,13 -33,32 -14,32
Top Component Center:
  lines w3.94: -19.68,0 19.68,0 ; 0,-19.68 0,19.68 ; -107.77,-109.92 -107.77,108.27 108.27,108.27 108.27,-109.92 -107.77,-109.92
Top Designator:
  lines w3.94: -107.77,-109.92 108.27,-109.92 108.27,108.27 -107.77,108.27 -107.77,-109.92
  text ".Designator" at -32.5,-13.48 h78.74
Mechanical 13:
  text "Z" at -3.94,-23.62 h10
  text "X" at 43.31,15.75 h10
  text "Y" at -23.62,39.37 h10
3D body "User Library-QFN 24 4x4.STEP": height 35.92, standoff 0.48, extent -78.82,-78.82 78.82,78.82

## RES-0603 [mm]
pads (2):
  rect 0.85x0.95 smd: 1(-0.65,0) 2(0.65,0)
Top Overlay:
  lines w0.15: -1.27,-0.508 -1.27,-0.7 1.27,-0.7 1.27,-0.508 ; -1.27,0.508 -1.27,0.7 1.27,0.7 1.27,0.508 ; 0,-0.7 0,0.7
Top Component Center:
  lines w0.1: -0.5,0 0.5,0 ; 0,-0.5 0,0.5 ; -1.375,-0.789 -1.375,-0.709 -1.375,-0.15 -1.375,0.233 -1.375,0.799 1.354,0.799 1.354,-0.789 -1.375,-0.789
Top Designator:
  lines w0.1: -1.375,-0.789 -1.375,-0.709 -1.375,-0.15 -1.375,0.233 -1.375,0.799 1.354,0.799 1.354,-0.789 -1.375,-0.789
  text ".Designator" at -0.5,-0.179 h1
3D body "0603 resistor.STEP": height 0.45, standoff 0, extent -0.8,-0.4 0.8,0.4

## S1A-13-F [mm]
pads (2):
  rect 2.5x1.7 smd paste+0 mask+0: 1(-2,0) 2(2,0)
Top Overlay:
  circle w0.25: c-3.908,0 r0.125
  lines w0.2: -2.15,-1.2 2.15,-1.2 ; -2.15,1.202 2.15,1.202
Top Component Center:
  lines w0.1: -0.5,0 0.5,0 ; 0,-0.5 0,0.5 ; -3.3,-1.4 -3.3,1.4 3.3,1.4 3.3,-1.4 -3.3,-1.4
Top Designator:
  lines w0.1: -3.3,-1.4 -3.3,1.4 3.3,1.4 3.3,-1.4 -3.3,-1.4
  text ".Designator" at -0.8,-0.407 h2
Mechanical 10:
  text ".Designator" at 0,0 h1
3D body "S1A-13-F.stp": height 2.4, standoff 0, extent -2.597,-1.302 2.598,1.303

## SOT23-3 [mm]
pads (3):
  rect 0.6x0.8 smd: 1(-0.95,-1.01) 2(0.95,-1.01) 3(0,1.01)
Top Overlay:
  lines w0.152: -1.572,-0.662 -1.572,0.65 -0.514,0.65 ; 0.564,0.65 1.572,0.65 1.572,-0.662
Top Component Center:
  lines w0.1: -0.5,0 0.5,0 ; 0,-0.5 0,0.5 ; -1.875,-1.625 1.75,-1.625 1.75,1.625 -1.875,1.625 -1.875,-1.625
Top Designator:
  lines w0.1: -1.875,-1.625 1.75,-1.625 1.75,1.625 -1.875,1.625 -1.875,-1.625
  text ".Designator" at -0.55,-0.229 h1
Mechanical 13:
  region: 0.229,0.701 -0.229,0.701 -0.229,1.285 0.229,1.285
  region: 1.168,-1.306 0.711,-1.306 0.711,-0.721 1.168,-0.721
  region: -0.711,-1.307 -1.17,-1.307 -1.17,-0.721 -0.711,-0.721
3D body "BC857BLT3G.STEP": height 1.02, standoff -0.09, extent -1.45,-1.335 1.45,1.065

## SOT-223-4 [mm]
pads (4):
  rect 2.15x1 smd: 1(-2.9,2.3) 2(-2.9,0) 3(-2.9,-2.3)
  rect 2.15x3.25 smd: 4(2.9,0)
Top Overlay:
  circle w0.127: c-3.175,3.683 r0.127
  lines w0.203: -1.5,-3.25 -1.5,3.25 1.5,3.25 1.5,-3.25 -1.5,-3.25
Top Component Center:
  lines w0.05: -4.25,-3.6 4.25,-3.6 4.25,3.6 -4.25,3.6 -4.25,-3.6
  lines w0.1: -0.5,0 0.5,0 ; 0,-0.5 0,0.5
Top Designator:
  lines w0.05: -4.25,-3.6 4.25,-3.6 4.25,3.6 -4.25,3.6 -4.25,-3.6
  text ".Designator" at -1,-0.207 h2
3D body "NCP1117ST33T3G.STEP": height 1.7, standoff -0.1, extent -3.498,-3.25 3.5,3.25

## STMicroelectronics_LQFP64-5W_MFG [mm]
pads (64):
  rect 1.2x0.3 smd paste+0 mask+0: 1(-5.75,3.75) 2(-5.75,3.25) 3(-5.75,2.75) 4(-5.75,2.25) 5(-5.75,1.75) 6(-5.75,1.25) 7(-5.75,0.75) 8(-5.75,0.25) 9(-5.75,-0.25) 10(-5.75,-0.75) 11(-5.75,-1.25) 12(-5.75,-1.75) 13(-5.75,-2.25) 14(-5.75,-2.75) 15(-5.75,-3.25) 16(-5.75,-3.75) 33(5.75,-3.75) 34(5.75,-3.25) 35(5.75,-2.75) 36(5.75,-2.25) 37(5.75,-1.75) 38(5.75,-1.25) 39(5.75,-0.75) 40(5.75,-0.25) 41(5.75,0.25) 42(5.75,0.75) 43(5.75,1.25) 44(5.75,1.75) 45(5.75,2.25) 46(5.75,2.75) 47(5.75,3.25) 48(5.75,3.75)
  rect 0.3x1.2 smd paste+0 mask+0: 17(-3.75,-5.75) 18(-3.25,-5.75) 19(-2.75,-5.75) 20(-2.25,-5.75) 21(-1.75,-5.75) 22(-1.25,-5.75) 23(-0.75,-5.75) 24(-0.25,-5.75) 25(0.25,-5.75) 26(0.75,-5.75) 27(1.25,-5.75) 28(1.75,-5.75) 29(2.25,-5.75) 30(2.75,-5.75) 31(3.25,-5.75) 32(3.75,-5.75) 49(3.75,5.75) 50(3.25,5.75) 51(2.75,5.75) 52(2.25,5.75) 53(1.75,5.75) 54(1.25,5.75) 55(0.75,5.75) 56(0.25,5.75) 57(-0.25,5.75) 58(-0.75,5.75) 59(-1.25,5.75) 60(-1.75,5.75) 61(-2.25,5.75) 62(-2.75,5.75) 63(-3.25,5.75) 64(-3.75,5.75)
Top Overlay:
  circle w0.25: c-6.85,3.725 r0.125
  lines w0.2: -5,-4.275 -5,-5 -4.275,-5 ; -5,4.275 -5,5 -4.275,5 ; 4.275,-5 5,-5 5,-4.275 ; 4.275,5 5,5 5,4.275
Top Component Center:
  lines w0.1: -0.5,0 0.5,0 ; 0,-0.5 0,0.5
  lines w0.2: -6.45,-6.45 -6.45,6.45 6.45,6.45 6.45,-6.45 -6.45,-6.45
Top Designator:
  lines w0.2: -6.45,-6.45 6.45,-6.45 6.45,6.45 -6.45,6.45 -6.45,-6.45
  text ".Designator" at 0,0.188 h1
3D body "IC_STMicroelectronics_STM32F405RGT6_eec.STEP": height 1.6, standoff 0, extent -5.999,-6.001 6.001,5.999

## TL3305BF260QG [mm]
pads (4):
  rect 1.6x1.4 smd: 1(-3.6,-1.5) 2(3.6,-1.5) 3(-3.6,1.5) 4(3.6,1.5)
Top Overlay:
  lines w0.1: -2.25,-2.25 -2.25,2.25 2.25,2.25 2.25,-2.25 -2.25,-2.25
Top Component Center:
  lines w0.1: -0.5,0 0.5,0 ; 0,-0.5 0,0.5 ; -4.575,-2.417 4.575,-2.417 4.575,2.421 -4.575,2.421 -4.575,-2.417
Top Designator:
  lines w0.1: -4.575,-2.417 4.575,-2.417 4.575,2.421 -4.575,2.421 -4.575,-2.417
  text ".Designator" at -1,-0.207 h2
3D body "TL3305BF260QG--3DModel-STEP-520916.STEP": height 4.9, standoff -0.1, extent -3.75,-2.25 3.75,2.25

## TVS-1610 [mm]
pads (2):
  rect 0.55x0.8 smd paste-1000 mask+0: 1(-0.625,0) 2(0.625,0)
Top Overlay:
  circle w0.25: c-1.6,0 r0.125
  lines w0.2: -0.85,-0.825 0.85,-0.825 ; -0.85,0.825 0.85,0.825
Top Paste:
  rectangle: -0.885,-0.38 -0.365,0.38
  rectangle: 0.365,-0.38 0.885,0.38
Top Component Center:
  lines w0.1: -0.5,0 0.5,0 ; 0,-0.5 0,0.5 ; -1,-0.65 1,-0.65 1,0.65 -1,0.65 -1,-0.65
Top Designator:
  lines w0.1: -1,-0.65 -1,0.65 1,0.65 1,-0.65 -1,-0.65
  text ".Designator" at 0,-0.09 h0.5
3D body "Diode_STMicroelectronics_ESDA7P60-1U1M_eec.STEP": height 0.65, standoff 0, extent -0.8,-0.5 0.8,0.5